# Altium schematic symbol library SIL HE3621A1250_SPST ReedRelay.SchLib: 1 symbol
Pins are listed as number, name and electrical type; pins without a type are passive.

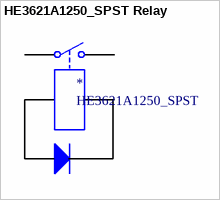
[diagram p0: symbol HE3621A1250_SPST Relay]

## HE3621A1250_SPST Relay
designator *, comment HE3621A1250_SPST
pins: 1, 2, 3, 4